# Altium schematic symbol library Connector-FFC_FPC.SchLib: 25 symbols
Pins are listed as number, name and electrical type; pins without a type are passive.

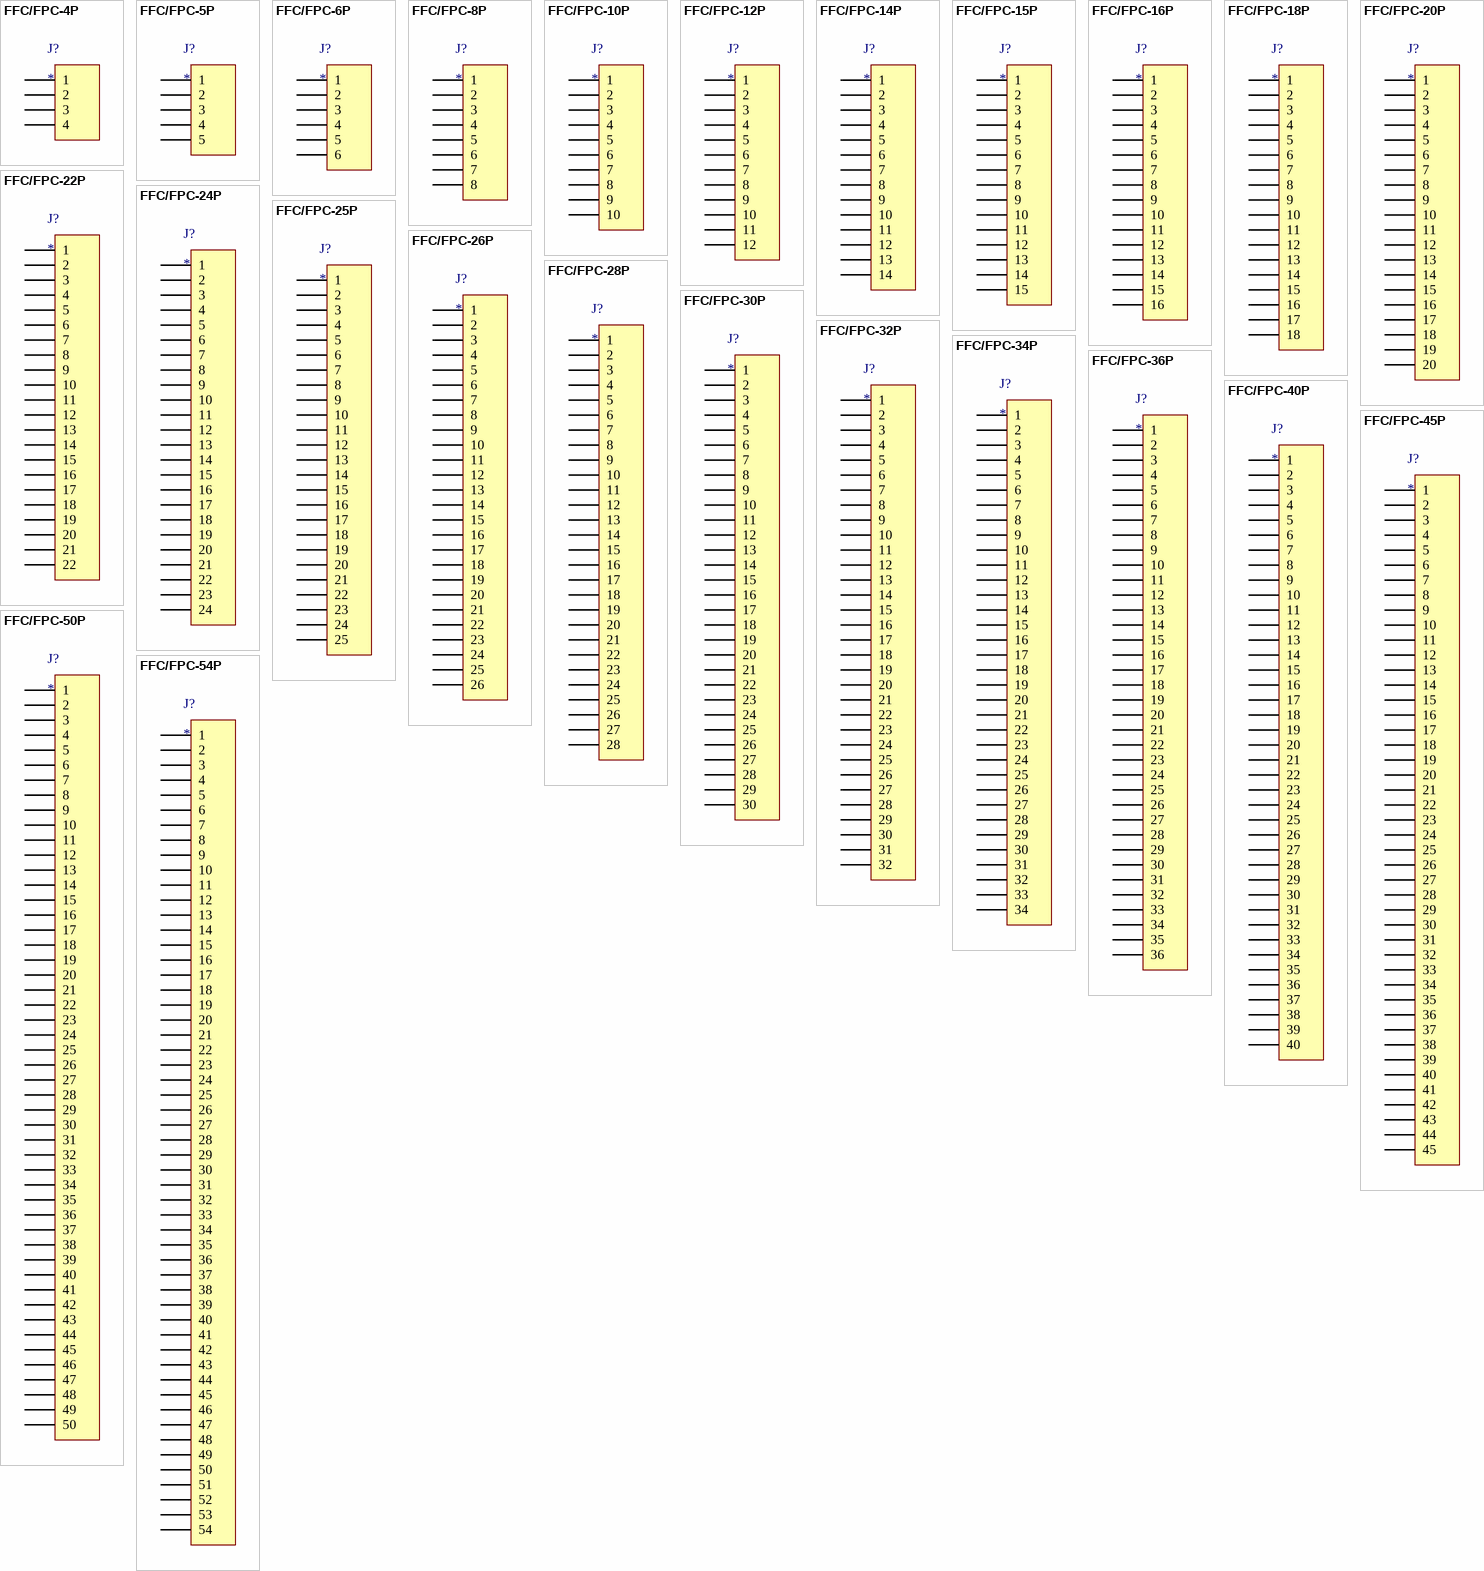
[diagram p0: symbols FFC/FPC-4P to FFC/FPC-54P]

## FFC/FPC-4P
designator J?
footprint FFC/FPC-1.0-4P_5.4W*2.5H
footprint FFC/FPC-0.5-4P_5.2W*2.0H
footprint FFC/FPC-0.5-4P_A_2.1W*4.5H
pins: 1, 2, 3, 4

## FFC/FPC-5P
designator J?
footprint FFC/FPC-1.0-5P_5.4W*2.5H
footprint FFC/FPC-0.5-5P_5.2W*2.0H
pins: 1, 2, 3, 4, 5

## FFC/FPC-6P
designator J?
footprint FFC/FPC-1.0-6P_5.4W*2.5H
footprint FFC/FPC-0.5-6P_5.2W*2.0H
footprint FFC/FPC-0.5-6P_A_2.1W*4.5H
pins: 1, 2, 3, 4, 5, 6

## FFC/FPC-8P
designator J?
footprint FFC/FPC-1.0-8P_5.4W*2.5H
footprint FFC/FPC-0.5-8P_5.2W*2.0H
footprint FFC/FPC-0.5-8P_A_2.1W*4.5H
pins: 1, 2, 3, 4, 5, 6, 7, 8

## FFC/FPC-10P
designator J?
footprint FFC/FPC-1.0-10P_5.4W*2.5H
footprint FFC/FPC-0.5-10P_5.2W*2.0H
footprint FFC/FPC-0.5-10P_A_2.1W*4.5H
pins: 1, 2, 3, 4, 5, 6, 7, 8, 9, 10

## FFC/FPC-12P
designator J?
footprint FFC/FPC-1.0-12P_5.4W*2.5H
footprint FFC/FPC-0.5-12P_5.2W*2.0H
footprint FFC/FPC-0.5-12P_A_2.1W*4.5H
pins: 1, 2, 3, 4, 5, 6, 7, 8, 9, 10, 11, 12

## FFC/FPC-14P
designator J?
footprint FFC/FPC-1.0-14P_5.4W*2.5H
footprint FFC/FPC-0.5-14P_5.2W*2.0H
footprint FFC/FPC-0.5-14P_A_2.1W*4.5H
pins: 1, 2, 3, 4, 5, 6, 7, 8, 9, 10, 11, 12, 13, 14

## FFC/FPC-15P
designator J?
footprint FFC/FPC-1.0-15P_5.4W*2.5H
pins: 1, 2, 3, 4, 5, 6, 7, 8, 9, 10, 11, 12, 13, 14, 15

## FFC/FPC-16P
designator J?
footprint FFC/FPC-1.0-16P_5.4W*2.5H
footprint FFC/FPC-0.5-16P_5.2W*2.0H
footprint FFC/FPC-0.5-16P_A_2.1W*4.5H
pins: 1, 2, 3, 4, 5, 6, 7, 8, 9, 10, 11, 12, 13, 14, 15, 16

## FFC/FPC-18P
designator J?
footprint FFC/FPC-1.0-18P_5.4W*2.5H
footprint FFC/FPC-0.5-18P_5.2W*2.0H
footprint FFC/FPC-0.5-18P_A_2.1W*4.5H
pins: 1, 2, 3, 4, 5, 6, 7, 8, 9, 10, 11, 12, 13, 14, 15, 16, 17, 18

## FFC/FPC-20P
designator J?
footprint FFC/FPC-1.0-20P_5.4W*2.5H
footprint FFC/FPC-0.5-20P_5.2W*2.0H
footprint FFC/FPC-0.5-20P_A_2.1W*4.5H
pins: 1, 2, 3, 4, 5, 6, 7, 8, 9, 10, 11, 12, 13, 14, 15, 16, 17, 18, 19, 20

## FFC/FPC-22P
designator J?
footprint FFC/FPC-1.0-22P_5.4W*2.5H
footprint FFC/FPC-0.5-22P_5.2W*2.0H
footprint FFC/FPC-0.5-22P_A_2.1W*4.5H
pins: 1, 2, 3, 4, 5, 6, 7, 8, 9, 10, 11, 12, 13, 14, 15, 16, 17, 18, 19, 20, 21, 22

## FFC/FPC-24P
designator J?
footprint FFC/FPC-1.0-24P_5.4W*2.5H
footprint FFC/FPC-0.5-24P_5.2W*2.0H
pins: 1, 2, 3, 4, 5, 6, 7, 8, 9, 10, 11, 12, 13, 14, 15, 16, 17, 18, 19, 20, 21, 22, 23, 24

## FFC/FPC-25P
designator J?
footprint FFC/FPC-1.0-25P_5.4W*2.5H
pins: 1, 2, 3, 4, 5, 6, 7, 8, 9, 10, 11, 12, 13, 14, 15, 16, 17, 18, 19, 20, 21, 22, 23, 24, 25

## FFC/FPC-26P
designator J?
footprint FFC/FPC-1.0-26P_5.4W*2.5H
footprint FFC/FPC-0.5-26P_5.2W*2.0H
footprint FFC/FPC-0.5-26P_A_2.1W*4.5H
pins: 1, 2, 3, 4, 5, 6, 7, 8, 9, 10, 11, 12, 13, 14, 15, 16, 17, 18, 19, 20, 21, 22, 23, 24, 25, 26

## FFC/FPC-28P
designator J?
footprint FFC/FPC-1.0-28P_5.4W*2.5H
footprint FFC/FPC-0.5-28P_A_2.1W*4.5H
pins: 1, 2, 3, 4, 5, 6, 7, 8, 9, 10, 11, 12, 13, 14, 15, 16, 17, 18, 19, 20, 21, 22, 23, 24, 25, 26, 27, 28

## FFC/FPC-30P
designator J?
footprint FFC/FPC-1.0-30P_5.4W*2.5H
footprint FFC/FPC-0.5-30P_5.2W*2.0H
footprint FFC/FPC-0.5-30P_A_2.1W*4.5H
pins: 1, 2, 3, 4, 5, 6, 7, 8, 9, 10, 11, 12, 13, 14, 15, 16, 17, 18, 19, 20, 21, 22, 23, 24, 25, 26, 27, 28, 29, 30

## FFC/FPC-32P
designator J?
footprint FFC/FPC-0.5-32P_5.2W*2.0H
footprint FFC/FPC-0.5-32P_A_2.1W*4.5H
pins: 1, 2, 3, 4, 5, 6, 7, 8, 9, 10, 11, 12, 13, 14, 15, 16, 17, 18, 19, 20, 21, 22, 23, 24, 25, 26, 27, 28, 29, 30, 31, 32

## FFC/FPC-34P
designator J?
footprint FFC/FPC-0.5-34P_5.2W*2.0H
footprint FFC/FPC-0.5-34P_A_2.1W*4.5H
pins: 1, 2, 3, 4, 5, 6, 7, 8, 9, 10, 11, 12, 13, 14, 15, 16, 17, 18, 19, 20, 21, 22, 23, 24, 25, 26, 27, 28, 29, 30, 31, 32, 33, 34

## FFC/FPC-36P
designator J?
footprint FFC/FPC-0.5-36P_5.2W*2.0H
footprint FFC/FPC-0.5-36P_A_2.1W*4.5H
pins: 1, 2, 3, 4, 5, 6, 7, 8, 9, 10, 11, 12, 13, 14, 15, 16, 17, 18, 19, 20, 21, 22, 23, 24, 25, 26, 27, 28, 29, 30, 31, 32, 33, 34, 35, 36

## FFC/FPC-40P
designator J?
footprint FFC/FPC-0.5-40P_5.2W*2.0H
footprint FFC/FPC-0.5-40P_A_2.1W*4.5H
pins: 1, 2, 3, 4, 5, 6, 7, 8, 9, 10, 11, 12, 13, 14, 15, 16, 17, 18, 19, 20, 21, 22, 23, 24, 25, 26, 27, 28, 29, 30, 31, 32, 33, 34, 35, 36, 37, 38, 39, 40

## FFC/FPC-45P
designator J?
footprint FFC/FPC-0.5-45P_A_2.1W*4.5H
pins: 1, 2, 3, 4, 5, 6, 7, 8, 9, 10, 11, 12, 13, 14, 15, 16, 17, 18, 19, 20, 21, 22, 23, 24, 25, 26, 27, 28, 29, 30, 31, 32, 33, 34, 35, 36, 37, 38, 39, 40, 41, 42, 43, 44, 45

## FFC/FPC-50P
designator J?
footprint FFC/FPC-0.5-50P_A_2.1W*4.5H
pins: 1, 2, 3, 4, 5, 6, 7, 8, 9, 10, 11, 12, 13, 14, 15, 16, 17, 18, 19, 20, 21, 22, 23, 24, 25, 26, 27, 28, 29, 30, 31, 32, 33, 34, 35, 36, 37, 38, 39, 40, 41, 42, 43, 44, 45, 46, 47, 48, 49, 50

## FFC/FPC-54P
designator J?
footprint FFC/FPC-0.5-54P_A_2.1W*4.5H
pins: 1, 2, 3, 4, 5, 6, 7, 8, 9, 10, 11, 12, 13, 14, 15, 16, 17, 18, 19, 20, 21, 22, 23, 24, 25, 26, 27, 28, 29, 30, 31, 32, 33, 34, 35, 36, 37, 38, 39, 40, 41, 42, 43, 44, 45, 46, 47, 48, 49, 50, 51, 52, 53, 54

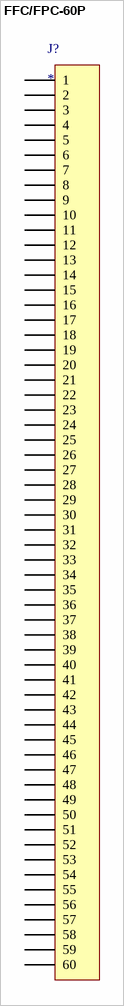
[diagram p1: symbol FFC/FPC-60P]

## FFC/FPC-60P
designator J?
footprint FFC/FPC-0.5-60P_A_2.1W*4.5H
pins: 1, 2, 3, 4, 5, 6, 7, 8, 9, 10, 11, 12, 13, 14, 15, 16, 17, 18, 19, 20, 21, 22, 23, 24, 25, 26, 27, 28, 29, 30, 31, 32, 33, 34, 35, 36, 37, 38, 39, 40, 41, 42, 43, 44, 45, 46, 47, 48, 49, 50, 51, 52, 53, 54, 55, 56, 57, 58, 59, 60